# Altium schematic symbol library Battery_Management.SchLib: 135 symbols (part 1 of 2)
Pins are listed as number, name and electrical type; pins without a type are passive.

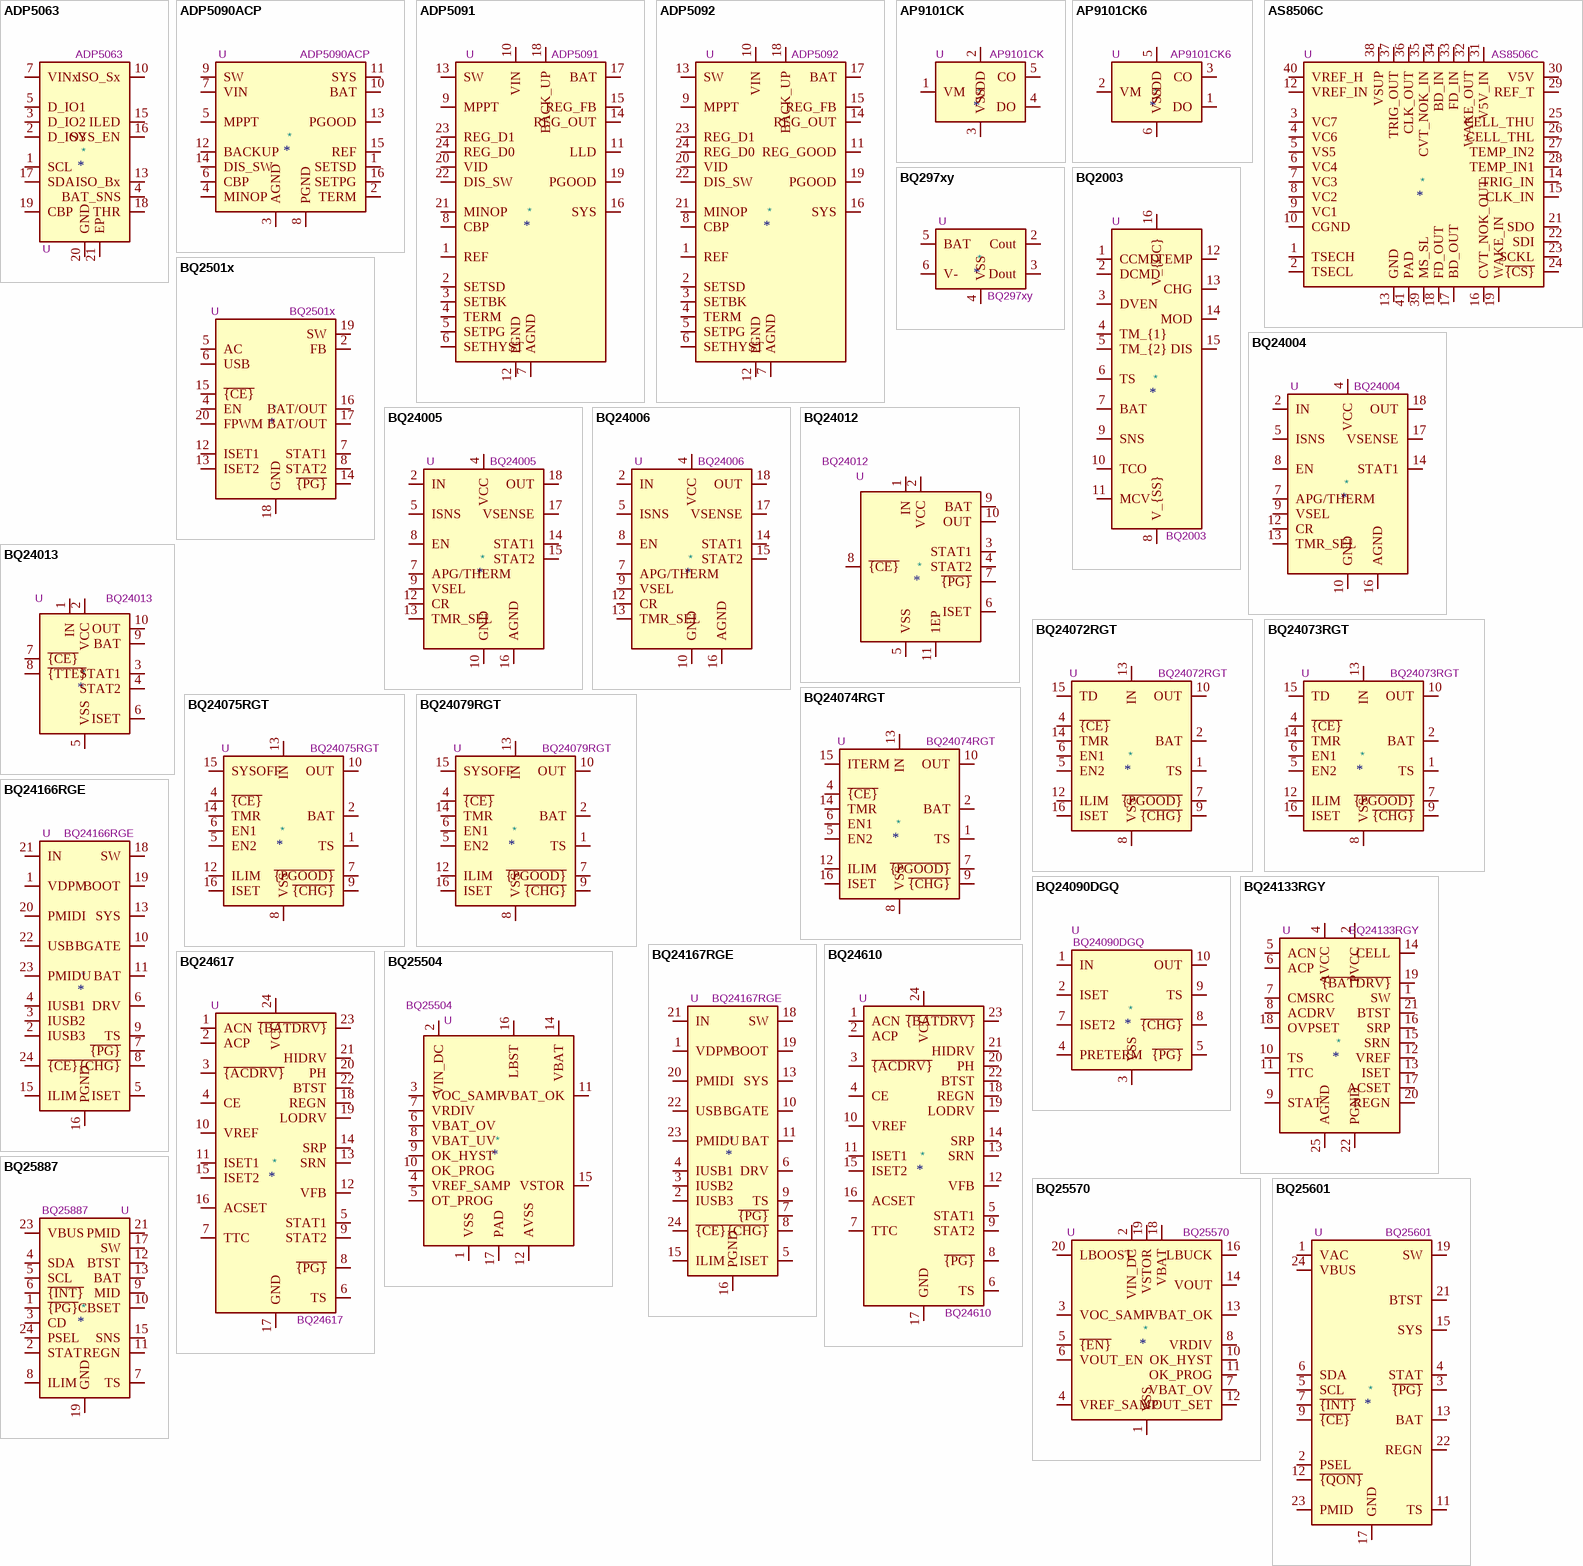
[diagram p0: symbols ADP5063 to BQ25887]

## ADP5063
designator *  value ADP5063  Reference: U
ki_keywords: LiFePo4 Battery USB PMIC; ki_description: Linear LiFePO4 Battery Charger with Power Path and USB Compatibility, LFCSP; ki_fp_filters: *QFN*1EP*4x4mm*P0.5mm*; Footprint: Package_DFN_QFN:QFN-20-1EP_4x4mm_P0.5mm_EP2.5x2.5mm; Datasheet: https://www.analog.com/media/en/technical-documentation/data-sheets/ADP5063.pdf
pins: 1 SCL, 2 D_IO3, 3 D_IO2, 4 BAT_SNS, 5 D_IO1, 6 VINx hidden, 7 VINx, 8 VINx hidden, 9 ISO_Sx hidden, 10 ISO_Sx, 11 ISO_Sx hidden, 12 ISO_Bx hidden, 13 ISO_Bx, 14 ISO_Bx hidden, 15 ILED, 16 SYS_EN, 17 SDA, 18 THR, 19 CBP, 20 GND, 21 EP

## ADP5090ACP
designator *  value ADP5090ACP  Reference: U
ki_keywords: boost regulator MPPT charge; ki_description: Ultralow Power Boost Regulator with MPPT and Charge Management, LFCSP-16; ki_fp_filters: LFCSP*1EP*3x3mm*P0.5mm*; Footprint: Package_CSP:LFCSP-16-1EP_3x3mm_P0.5mm_EP1.7x1.7mm; Datasheet: https://www.analog.com/media/en/technical-documentation/data-sheets/ADP5090.pdf
pins: 1 SETSD, 2 TERM, 3 AGND, 4 MINOP, 5 MPPT, 6 CBP, 7 VIN, 8 PGND, 9 SW, 10 BAT, 11 SYS, 12 BACKUP, 13 PGOOD, 14 DIS_SW, 15 REF, 16 SETPG, 17 AGND hidden

## ADP5091
designator *  value ADP5091  Reference: U
ki_keywords: energy harvester; ki_description: Ultralow Power Energy Harvester PMUs with MPPT and Charge Management, LFCSP-24; ki_fp_filters: LFCSP*1EP*4x4mm*P0.5mm*; Footprint: Package_CSP:LFCSP-24-1EP_4x4mm_P0.5mm_EP2.3x2.3mm; Datasheet: https://www.analog.com/media/en/technical-documentation/data-sheets/ADP5091-5092.pdf
pins: 1 REF, 2 SETSD, 3 SETBK, 4 TERM, 5 SETPG, 6 SETHYST, 7 AGND, 8 CBP, 9 MPPT, 10 VIN, 11 LLD, 12 PGND, 13 SW, 14 REG_OUT, 15 REG_FB, 16 SYS, 17 BAT, 18 BACK_UP, 19 PGOOD, 20 VID, 21 MINOP, 22 DIS_SW, 23 REG_D1, 24 REG_D0, 25 AGND hidden

## ADP5092
designator *  value ADP5092  Reference: U
ki_keywords: energy harvester; ki_description: Ultralow Power Energy Harvester PMUs with MPPT and Charge Management, LFCSP-24; ki_fp_filters: LFCSP*1EP*4x4mm*P0.5mm*; Footprint: Package_CSP:LFCSP-24-1EP_4x4mm_P0.5mm_EP2.3x2.3mm; Datasheet: https://www.analog.com/media/en/technical-documentation/data-sheets/ADP5091-5092.pdf
pins: 1 REF, 2 SETSD, 3 SETBK, 4 TERM, 5 SETPG, 6 SETHYST, 7 AGND, 8 CBP, 9 MPPT, 10 VIN, 11 REG_GOOD, 12 PGND, 13 SW, 14 REG_OUT, 15 REG_FB, 16 SYS, 17 BAT, 18 BACK_UP, 19 PGOOD, 20 VID, 21 MINOP, 22 DIS_SW, 23 REG_D1, 24 REG_D0, 25 AGND hidden

## AP9101CK
designator *  value AP9101CK  Reference: U
ki_keywords: battery protection li-ion li-po; ki_description: Li+ Battery Protection IC for Single Cell Pack, SOT-23-5; ki_fp_filters: SOT?23*; Footprint: Package_TO_SOT_SMD:SOT-23-5; Datasheet: https://www.diodes.com/assets/Datasheets/AP9101C.pdf
pins: 1 VM, 2 VDD, 3 VSS, 4 DO, 5 CO

## AP9101CK6
designator *  value AP9101CK6  Reference: U
ki_keywords: battery protection li-ion li-po; ki_description: Li+ Battery Protection IC for Single Cell Pack, SOT-23-6; ki_fp_filters: SOT?23*; Footprint: Package_TO_SOT_SMD:SOT-23-6; Datasheet: https://www.diodes.com/assets/Datasheets/AP9101C.pdf
pins: 1 DO, 2 VM, 3 CO, 4 NC hidden, 5 VDD, 6 VSS

## AS8506C
designator *  value AS8506C  Reference: U
ki_keywords: battery balance lithium charge afe; ki_description: Stackable cell monitor, cell balancer, 3-7 Cells, SPI Interface; ki_fp_filters: QFN*6x6mm*P0.5mm*; Footprint: Package_DFN_QFN:QFN-40-1EP_6x6mm_P0.5mm_EP4.6x4.6mm; Datasheet: http://ams.com/eng/content/download/476603/1402377/252935
pins: 1 TSECH, 2 TSECL, 3 VC7, 4 VC6, 5 VS5, 6 VC4, 7 VC3, 8 VC2, 9 VC1, 10 CGND, 11 NC hidden, 12 VREF_IN, 13 GND, 14 TRIG_IN, 15 CLK_IN, 16 CVT_NOK_OUT, 17 BD_OUT, 18 FD_OUT, 19 WAKE_IN, 20 NC_T hidden, 21 SDO, 22 SDI, 23 SCKL, 24 ~{{CS}}, 25 CELL_THU, 26 CELL_THL, 27 TEMP_IN2, 28 TEMP_IN1, 29 REF_T, 30 V5V, 31 V5V_IN, 32 WAKE_OUT, 33 FD_IN, 34 BD_IN, 35 CVT_NOK_IN, 36 CLK_OUT, 37 TRIG_OUT, 38 VSUP, 39 MS_SL, 40 VREF_H, 41 PAD

## BQ297xy
designator *  value BQ297xy  Reference: U
ki_keywords: protection Li-Ion Li-Pol; ki_description: Voltage and Current Protection for Single-Cell Li-Ion and Li-Polymer Batteries; ki_fp_filters: WSON*1.5x1.5mm*P0.5mm*; Footprint: Package_SON:WSON-6_1.5x1.5mm_P0.5mm; Datasheet: http://www.ti.com/lit/ds/symlink/bq2970.pdf
pins: 1 NC hidden, 2 Cout, 3 Dout, 4 VSS, 5 BAT, 6 V-

## BQ2003
designator *  value BQ2003  Reference: U
ki_keywords: battery nickel cadmium metal hydride; ki_description: Standalone switchmode NiCd/NiMH battery charger, 2-4 cells, negative dV and dT/dt termination; ki_fp_filters: DIP*W7.62mm* SOIC*7.5x10.3mm*P1.27mm*; Datasheet: http://www.ti.com/lit/ds/symlink/bq2003.pdf
pins: 1 CCMD, 2 DCMD, 3 DVEN, 4 TM_{1}, 5 TM_{2}, 6 TS, 7 BAT, 8 V_{SS}, 9 SNS, 10 TCO, 11 MCV, 12 TEMP, 13 CHG, 14 MOD, 15 DIS, 16 V_{CC}

## BQ2501x
designator *  value BQ2501x  Reference: U
ki_keywords: Li-ion buck; ki_description: 500mA Li-Ion Charger w/Integrated 150mA Synchronous Buck Converter, QFN-14; ki_fp_filters: Texas?VQFN?RHL*; Footprint: Package_DFN_QFN:Texas_VQFN-RHL-20_ThermalVias; Datasheet: http://www.ti.com/lit/ds/symlink/bq25010.pdf
pins: 1 NC hidden, 2 FB, 3 GND hidden, 4 EN, 5 AC, 6 USB, 7 STAT1, 8 STAT2, 9 GND hidden, 10 NC hidden, 11 NC hidden, 12 ISET1, 13 ISET2, 14 ~{{PG}}, 15 ~{{CE}}, 16 BAT/OUT, 17 BAT/OUT, 18 GND, 19 SW, 20 FPWM, 21 GND hidden

## BQ24004
designator *  value BQ24004  Reference: U
ki_keywords: 2-Cell Li-Ion Charge; ki_description: 2-Cell Li-Ion Charge Management IC, HTSSOP-20; ki_fp_filters: HTSSOP*1EP*4.4x6.5mm*P0.65mm*; Footprint: Package_SO:HTSSOP-20-1EP_4.4x6.5mm_P0.65mm_EP3.4x6.5mm_Mask2.4x3.7mm; Datasheet: http://www.ti.com/lit/ds/symlink/bq24006.pdf
pins: 1 N/C hidden, 2 IN, 3 IN hidden, 4 VCC, 5 ISNS, 6 N/C hidden, 7 APG/THERM, 8 EN, 9 VSEL, 10 GND, 11 N/C hidden, 12 CR, 13 TMR_SEL, 14 STAT1, 15 N/C hidden, 16 AGND, 17 VSENSE, 18 OUT, 19 OUT hidden, 20 N/C hidden, 21 GND hidden

## BQ24005
designator *  value BQ24005  Reference: U
ki_keywords: 2-Cell Li-Ion Charge; ki_description: 2-Cell Li-Ion Charge Management IC, HTSSOP-20; ki_fp_filters: HTSSOP*1EP*4.4x6.5mm*P0.65mm*; Footprint: Package_SO:HTSSOP-20-1EP_4.4x6.5mm_P0.65mm_EP3.4x6.5mm_Mask2.4x3.7mm; Datasheet: http://www.ti.com/lit/ds/symlink/bq24006.pdf
pins: 1 N/C hidden, 2 IN, 3 IN hidden, 4 VCC, 5 ISNS, 6 N/C hidden, 7 APG/THERM, 8 EN, 9 VSEL, 10 GND, 11 N/C hidden, 12 CR, 13 TMR_SEL, 14 STAT1, 15 STAT2, 16 AGND, 17 VSENSE, 18 OUT, 19 OUT hidden, 20 N/C hidden, 21 GND hidden

## BQ24006
designator *  value BQ24006  Reference: U
ki_keywords: 2-Cell Li-Ion Charge; ki_description: 2-Cell Li-Ion Charge Management IC, HTSSOP-20; ki_fp_filters: HTSSOP*1EP*4.4x6.5mm*P0.65mm*; Footprint: Package_SO:HTSSOP-20-1EP_4.4x6.5mm_P0.65mm_EP3.4x6.5mm_Mask2.4x3.7mm; Datasheet: http://www.ti.com/lit/ds/symlink/bq24006.pdf
pins: 1 N/C hidden, 2 IN, 3 IN hidden, 4 VCC, 5 ISNS, 6 N/C hidden, 7 APG/THERM, 8 EN, 9 VSEL, 10 GND, 11 N/C hidden, 12 CR, 13 TMR_SEL, 14 STAT1, 15 STAT2, 16 AGND, 17 VSENSE, 18 OUT, 19 OUT hidden, 20 N/C hidden, 21 GND hidden

## BQ24012
designator *  value BQ24012  Reference: U
ki_keywords: Battery Charger Li-Ion; ki_description: Single-Chip Li-Ion Charge Management IC, DFN-10; ki_fp_filters: VSON*1EP*3x3mm*P0.5mm*; Footprint: Package_SON:VSON-10-1EP_3x3mm_P0.5mm_EP1.65x2.4mm_ThermalVias; Datasheet: http://www.ti.com/lit/ds/symlink/bq24012.pdf
pins: 1 IN, 2 VCC, 3 STAT1, 4 STAT2, 5 VSS, 6 ISET, 7 ~{{PG}}, 8 ~{{CE}}, 9 BAT, 10 OUT, 11 1EP

## BQ24013
designator *  value BQ24013  Reference: U
ki_keywords: Batter Charger Li-Ion; ki_description: Single-Chip Li-Ion Charge Management IC, VSON-10; ki_fp_filters: Texas*DRC0010J*; Footprint: Package_SON:Texas_DRC0010J_ThermalVias; Datasheet: http://www.ti.com/lit/ds/symlink/bq24012.pdf
pins: 1 IN, 2 VCC, 3 STAT1, 4 STAT2, 5 VSS, 6 ISET, 7 ~{{CE}}, 8 ~{{TTE}}, 9 BAT, 10 OUT, 11 VSS hidden

## BQ24072RGT
designator *  value BQ24072RGT  Reference: U
ki_keywords: USB Charger; ki_description: USB-Friendly Li-Ion Battery Charger and Power-Path Management, VQFN-16; ki_fp_filters: VQFN*1EP*3x3mm*P0.5mm*; Footprint: Package_DFN_QFN:VQFN-16-1EP_3x3mm_P0.5mm_EP1.6x1.6mm; Datasheet: http://www.ti.com/lit/ds/symlink/bq24072.pdf
pins: 1 TS, 2 BAT, 3 BAT hidden, 4 ~{{CE}}, 5 EN2, 6 EN1, 7 ~{{PGOOD}}, 8 VSS, 9 ~{{CHG}}, 10 OUT, 11 OUT hidden, 12 ILIM, 13 IN, 14 TMR, 15 TD, 16 ISET, 17 VSS hidden

## BQ24073RGT
designator *  value BQ24073RGT  Reference: U
ki_keywords: USB Charger; ki_description: USB-Friendly Li-Ion Battery Charger and Power-Path Management, VQFN-16; ki_fp_filters: VQFN*1EP*3x3mm*P0.5mm*; Footprint: Package_DFN_QFN:VQFN-16-1EP_3x3mm_P0.5mm_EP1.6x1.6mm; Datasheet: http://www.ti.com/lit/ds/symlink/bq24073.pdf
pins: 1 TS, 2 BAT, 3 BAT hidden, 4 ~{{CE}}, 5 EN2, 6 EN1, 7 ~{{PGOOD}}, 8 VSS, 9 ~{{CHG}}, 10 OUT, 11 OUT hidden, 12 ILIM, 13 IN, 14 TMR, 15 TD, 16 ISET, 17 VSS hidden

## BQ24074RGT
designator *  value BQ24074RGT  Reference: U
ki_keywords: USB Charger; ki_description: USB-Friendly Li-Ion Battery Charger and Power-Path Management, VQFN-16; ki_fp_filters: VQFN*1EP*3x3mm*P0.5mm*; Footprint: Package_DFN_QFN:VQFN-16-1EP_3x3mm_P0.5mm_EP1.6x1.6mm; Datasheet: http://www.ti.com/lit/ds/symlink/bq24074.pdf
pins: 1 TS, 2 BAT, 3 BAT hidden, 4 ~{{CE}}, 5 EN2, 6 EN1, 7 ~{{PGOOD}}, 8 VSS, 9 ~{{CHG}}, 10 OUT, 11 OUT hidden, 12 ILIM, 13 IN, 14 TMR, 15 ITERM, 16 ISET, 17 VSS hidden

## BQ24075RGT
designator *  value BQ24075RGT  Reference: U
ki_keywords: USB Charger; ki_description: USB-Friendly Li-Ion Battery Charger and Power-Path Management, VQFN-16; ki_fp_filters: VQFN*1EP*3x3mm*P0.5mm*; Footprint: Package_DFN_QFN:VQFN-16-1EP_3x3mm_P0.5mm_EP1.6x1.6mm; Datasheet: http://www.ti.com/lit/ds/symlink/bq24075.pdf
pins: 1 TS, 2 BAT, 3 BAT hidden, 4 ~{{CE}}, 5 EN2, 6 EN1, 7 ~{{PGOOD}}, 8 VSS, 9 ~{{CHG}}, 10 OUT, 11 OUT hidden, 12 ILIM, 13 IN, 14 TMR, 15 SYSOFF, 16 ISET, 17 VSS hidden

## BQ24079RGT
designator *  value BQ24079RGT  Reference: U
ki_keywords: USB Charger; ki_description: USB-Friendly Li-Ion Battery Charger and Power-Path Management, VQFN-16; ki_fp_filters: VQFN*1EP*3x3mm*P0.5mm*; Footprint: Package_DFN_QFN:VQFN-16-1EP_3x3mm_P0.5mm_EP1.6x1.6mm; Datasheet: http://www.ti.com/lit/ds/symlink/bq24079.pdf
pins: 1 TS, 2 BAT, 3 BAT hidden, 4 ~{{CE}}, 5 EN2, 6 EN1, 7 ~{{PGOOD}}, 8 VSS, 9 ~{{CHG}}, 10 OUT, 11 OUT hidden, 12 ILIM, 13 IN, 14 TMR, 15 SYSOFF, 16 ISET, 17 VSS hidden

## BQ24090DGQ
designator *  value BQ24090DGQ  Reference: U
ki_keywords: battery charger singlecell li-ion li-poly; ki_description: 1A, Single-Input, SingleCell Li-Ion and Li-Pol BatteryCharger, HVSSOP-10; ki_fp_filters: HVSSOP*1EP*3x3mm*P0.5mm*; Footprint: Package_SO:HVSSOP-10-1EP_3x3mm_P0.5mm_EP1.57x1.88mm_ThermalVias; Datasheet: http://www.ti.com/lit/ds/symlink/bq24090.pdf
pins: 1 IN, 2 ISET, 3 VSS, 4 PRETERM, 5 ~{{PG}}, 6 NC hidden, 7 ISET2, 8 ~{{CHG}}, 9 TS, 10 OUT, 11 VSS hidden

## BQ24133RGY
designator *  value BQ24133RGY  Reference: U
ki_keywords: Battery Charger Li-Ion Li-Poly; ki_description: Synchronous switched mode Li-Ion and Li-Polymer battery charger, integrated MOSFETs and power path selector, Texas R-PVQFN-N24; ki_fp_filters: Texas*RGY*R*PVQFN*N*; Footprint: Package_DFN_QFN:Texas_RGY_R-PVQFN-N24_EP2.05x3.1mm; Datasheet: http://www.ti.com/lit/ds/symlink/bq24133.pdf
pins: 1 SW, 2 PVCC, 3 PVCC hidden, 4 AVCC, 5 ACN, 6 ACP, 7 CMSRC, 8 ACDRV, 9 STAT, 10 TS, 11 TTC, 12 VREF, 13 ISET, 14 CELL, 15 SRN, 16 SRP, 17 ACSET, 18 OVPSET, 19 ~{{BATDRV}}, 20 REGN, 21 BTST, 22 PGND, 23 PGND hidden, 24 SW hidden, 25 AGND

## BQ24166RGE
designator *  value BQ24166RGE  Reference: U
ki_keywords: Battery Charger Li-Ion Li-Poly; ki_description: High efficiency switched mode Li-Ion and Li-Polymer battery charger, integrated MOSFETs, power path selector and standard temperature sensing, Texas R-RGE0024H; ki_fp_filters: Texas*RGE0024H*; Footprint: Package_DFN_QFN:Texas_RGE0024H_EP2.7x2.7mm; Datasheet: https://www.ti.com/lit/ds/symlink/bq24166.pdf
pins: 1 VDPM, 2 IUSB3, 3 IUSB2, 4 IUSB1, 5 ISET, 6 DRV, 7 ~{{PG}}, 8 ~{{CHG}}, 9 TS, 10 BGATE, 11 BAT, 12 BAT hidden, 13 SYS, 14 SYS hidden, 15 ILIM, 16 PGND, 17 PGND hidden, 18 SW, 19 BOOT, 20 PMIDI, 21 IN, 22 USB, 23 PMIDU, 24 ~{{CE}}, 25 PGND hidden

## BQ24167RGE
designator *  value BQ24167RGE  Reference: U
ki_keywords: Battery Charger Li-Ion Li-Poly; ki_description: High efficiency switched mode Li-Ion and Li-Polymer battery charger, integrated MOSFETs, power path selector and JEITA compatible temperature sensing, Texas R-RGE0024H; ki_fp_filters: Texas*RGE0024H*; Footprint: Package_DFN_QFN:Texas_RGE0024H_EP2.7x2.7mm; Datasheet: https://www.ti.com/lit/ds/symlink/bq24166.pdf
pins: 1 VDPM, 2 IUSB3, 3 IUSB2, 4 IUSB1, 5 ISET, 6 DRV, 7 ~{{PG}}, 8 ~{{CHG}}, 9 TS, 10 BGATE, 11 BAT, 12 BAT hidden, 13 SYS, 14 SYS hidden, 15 ILIM, 16 PGND, 17 PGND hidden, 18 SW, 19 BOOT, 20 PMIDI, 21 IN, 22 USB, 23 PMIDU, 24 ~{{CE}}, 25 PGND hidden

## BQ24610
designator *  value BQ24610  Reference: U
ki_keywords: Li-ion buck; ki_description: 10A, 28V max voltage, Li-Ion Charger w/600kHz NMOS-NMOS Synchronous Buck Converter, VQFN-24; ki_fp_filters: VQFN*1EP*4x4mm*P0.5mm*; Footprint: Package_DFN_QFN:VQFN-24-1EP_4x4mm_P0.5mm_EP2.45x2.45mm; Datasheet: https://www.ti.com/lit/ds/symlink/bq24610.pdf
pins: 1 ACN, 2 ACP, 3 ~{{ACDRV}}, 4 CE, 5 STAT1, 6 TS, 7 TTC, 8 ~{{PG}}, 9 STAT2, 10 VREF, 11 ISET1, 12 VFB, 13 SRN, 14 SRP, 15 ISET2, 16 ACSET, 17 GND, 18 REGN, 19 LODRV, 20 PH, 21 HIDRV, 22 BTST, 23 ~{{BATDRV}}, 24 VCC, 25 GND hidden

## BQ24617
designator *  value BQ24617  Reference: U
ki_keywords: Li-ion buck; ki_description: 10A, 24V max voltage, Li-Ion Charger w/600kHz NMOS-NMOS Synchronous Buck Converter, VQFN-24; ki_fp_filters: VQFN*1EP*4x4mm*P0.5mm*; Footprint: Package_DFN_QFN:VQFN-24-1EP_4x4mm_P0.5mm_EP2.45x2.45mm; Datasheet: https://www.ti.com/lit/ds/symlink/bq24610.pdf
pins: 1 ACN, 2 ACP, 3 ~{{ACDRV}}, 4 CE, 5 STAT1, 6 TS, 7 TTC, 8 ~{{PG}}, 9 STAT2, 10 VREF, 11 ISET1, 12 VFB, 13 SRN, 14 SRP, 15 ISET2, 16 ACSET, 17 GND, 18 REGN, 19 LODRV, 20 PH, 21 HIDRV, 22 BTST, 23 ~{{BATDRV}}, 24 VCC, 25 GND hidden

## BQ25504
designator *  value BQ25504  Reference: U
ki_keywords: energy harvesting li-ion battery solar TEG; ki_description: Energy Harvesting Boost Converter with Battery Management, VQFN-16; ki_fp_filters: *QFN*3x3mm*P0.5mm*; Footprint: Package_DFN_QFN:VQFN-16-1EP_3x3mm_P0.5mm_EP1.68x1.68mm; Datasheet: http://www.ti.com/lit/ds/symlink/bq25504.pdf
pins: 1 VSS, 2 VIN_DC, 3 VOC_SAMP, 4 VREF_SAMP, 5 OT_PROG, 6 VBAT_OV, 7 VRDIV, 8 VBAT_UV, 9 OK_HYST, 10 OK_PROG, 11 VBAT_OK, 12 AVSS, 13 VSS hidden, 14 VBAT, 15 VSTOR, 16 LBST, 17 PAD

## BQ25570
designator *  value BQ25570  Reference: U
ki_keywords: harvester solar TEG charger li-on buck; ki_description: Nano Power Boost Charger and Buck Converter for Energy Harvester Powered Applications, QFN-20; ki_fp_filters: QFN*1EP*3.5x3.5mm*P0.5mm*; Footprint: Package_DFN_QFN:QFN-20-1EP_3.5x3.5mm_P0.5mm_EP2x2mm; Datasheet: http://www.ti.com/lit/ds/symlink/bq25570.pdf
pins: 1 VSS, 2 VIN_DC, 3 VOC_SAMP, 4 VREF_SAMP, 5 ~{{EN}}, 6 VOUT_EN, 7 VBAT_OV, 8 VRDIV, 9 VSS hidden, 10 OK_HYST, 11 OK_PROG, 12 VOUT_SET, 13 VBAT_OK, 14 VOUT, 15 VSS hidden, 16 LBUCK, 17 VSS hidden, 18 VBAT, 19 VSTOR, 20 LBOOST, 21 VSS hidden

## BQ25601
designator *  value BQ25601  Reference: U
ki_keywords: LiPO charger; ki_description: I2C Controlled 3A Single-Cell Battery Charger for High Input Voltage and Narrow Voltage DC Power Path Management, WQFN-32; ki_fp_filters: Texas*S?PWQFN?N*EP*; Footprint: Package_DFN_QFN:Texas_S-PWQFN-N24_EP2.7x2.7mm_ThermalVias; Datasheet: http://www.ti.com/lit/ds/symlink/bq25601.pdf
pins: 1 VAC, 2 PSEL, 3 ~{{PG}}, 4 STAT, 5 SCL, 6 SDA, 7 ~{{INT}}, 8 NC hidden, 9 ~{{CE}}, 10 NC hidden, 11 TS, 12 ~{{QON}}, 13 BAT, 14 BAT hidden, 15 SYS, 16 SYS hidden, 17 GND, 18 GND hidden, 19 SW, 20 SW hidden, 21 BTST, 22 REGN, 23 PMID, 24 VBUS, 25 GND hidden

## BQ25887
designator *  value BQ25887  Reference: U
ki_keywords: LiIon Charger Boost; ki_description: I2C Controller 2-Cell 2A Boost mode LiIon Charger with cell balancing; ki_fp_filters: VQFN*4x4mm*; Footprint: Package_DFN_QFN:VQFN-24-1EP_4x4mm_P0.5mm_EP2.5x2.5mm; Datasheet: https://www.ti.com/lit/ds/symlink/bq25887.pdf
pins: 1 ~{{PG}}, 2 STAT, 3 CD, 4 SDA, 5 SCL, 6 ~{{INT}}, 7 TS, 8 ILIM, 9 MID, 10 CBSET, 11 REGN, 12 BTST, 13 BAT, 14 BAT hidden, 15 SNS, 16 SNS hidden, 17 SW, 18 SW hidden, 19 GND, 20 GND hidden, 21 PMID, 22 PMID hidden, 23 VBUS, 24 PSEL

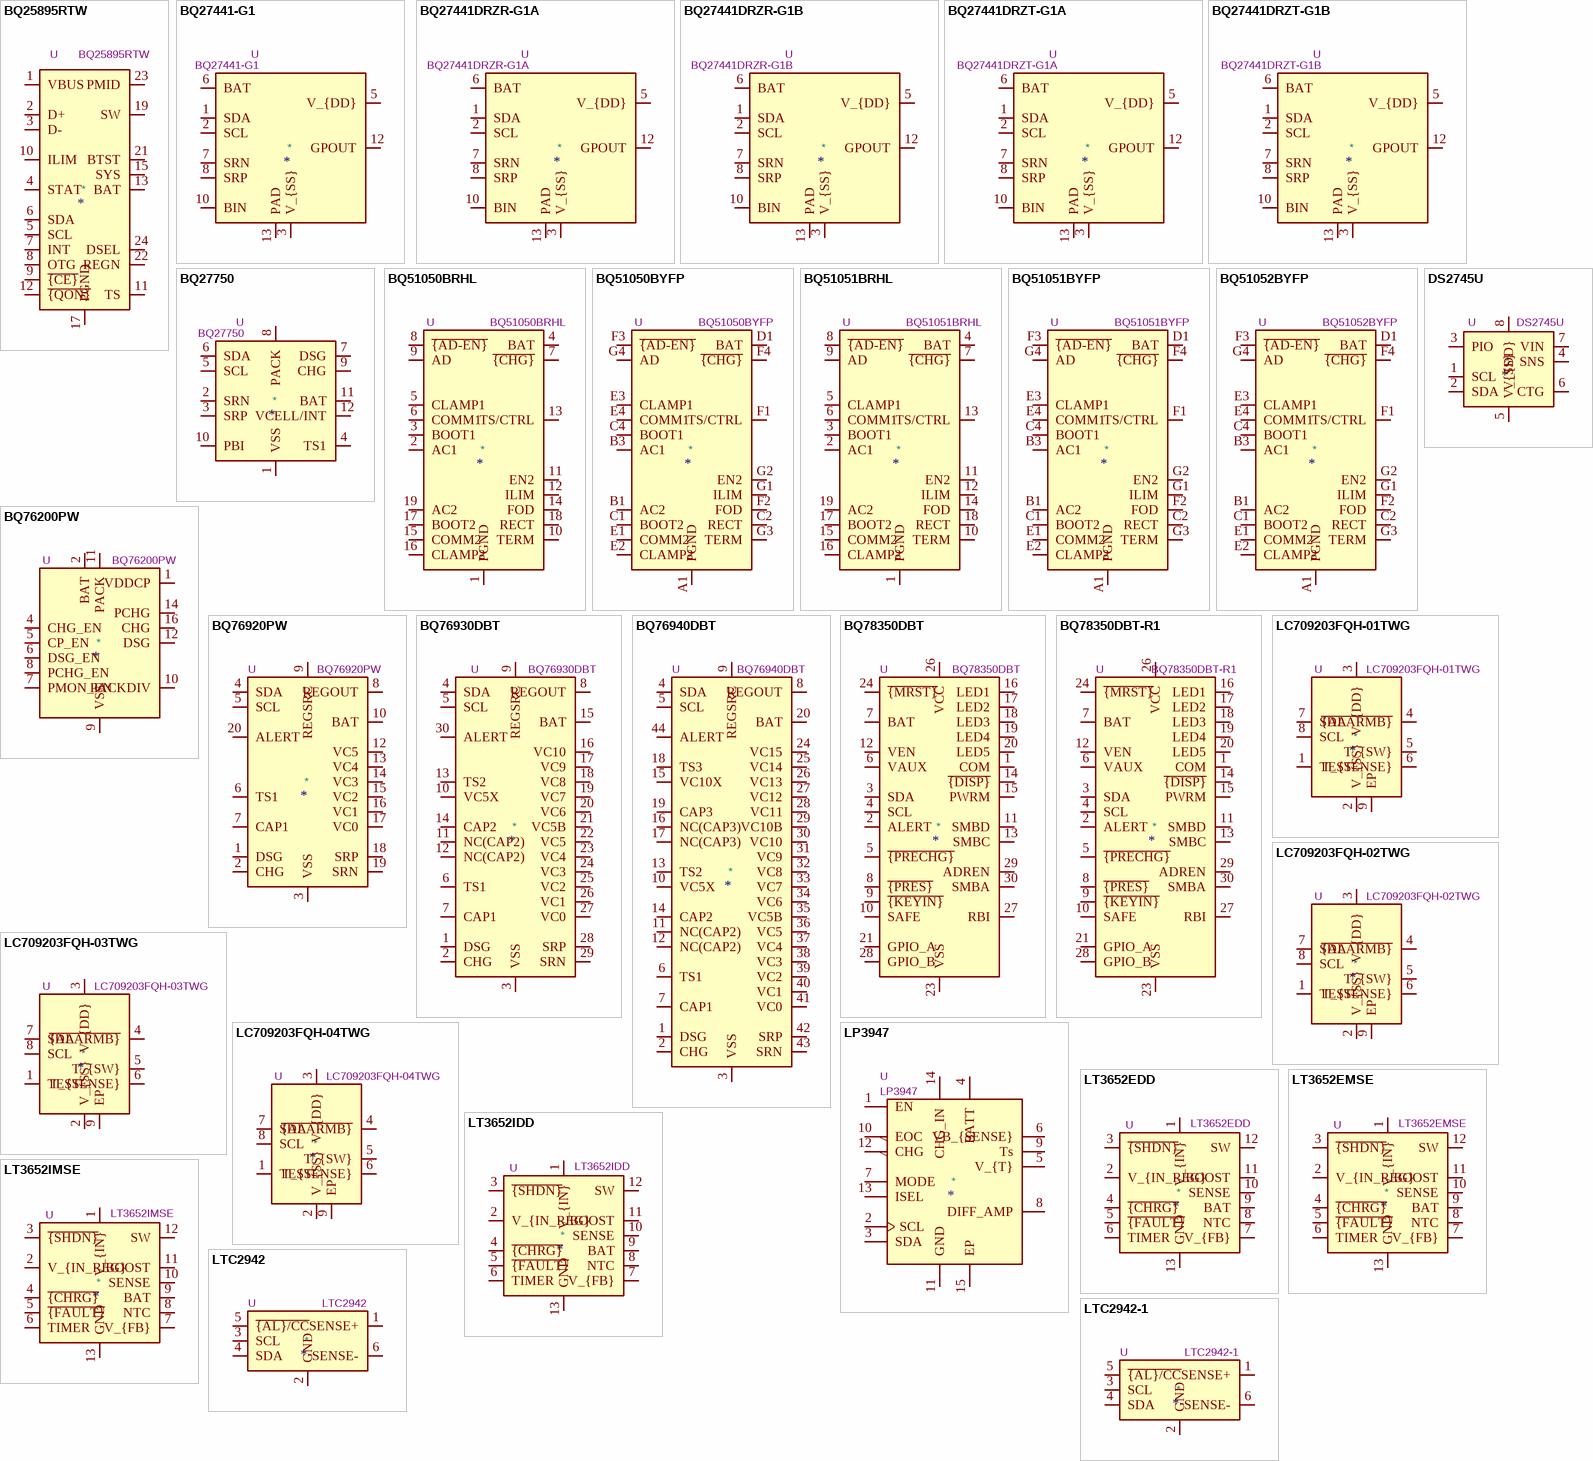
[diagram p1: symbols BQ25895RTW to LTC2942-1]

## BQ25895RTW
designator *  value BQ25895RTW  Reference: U
ki_keywords: Battery Charger and Power Path Management; ki_description: Controlled Single Cell 5A Fast Charger with MaxCharge, WQFN-24; ki_fp_filters: Texas*S?PWQFN?N*EP*; Footprint: Package_DFN_QFN:Texas_S-PWQFN-N24_EP2.7x2.7mm_ThermalVias; Datasheet: http://www.ti.com/lit/ds/symlink/bq25895.pdf
pins: 1 VBUS, 2 D+, 3 D-, 4 STAT, 5 SCL, 6 SDA, 7 INT, 8 OTG, 9 ~{{CE}}, 10 ILIM, 11 TS, 12 ~{{QON}}, 13 BAT, 14 BAT hidden, 15 SYS, 16 SYS hidden, 17 PGND, 18 PGND hidden, 19 SW, 20 SW hidden, 21 BTST, 22 REGN, 23 PMID, 24 DSEL, 25 PGND hidden

## BQ27441-G1
designator *  value BQ27441-G1  Reference: U
ki_keywords: Fuel Gauge; ki_description: System Side Li Ion/Polymer Fuel Gauge, PDSON-12; ki_fp_filters: *PDSO*N12*; Footprint: Package_SON:Texas_S-PDSO-N12; Datasheet: http://www.ti.com/lit/ds/symlink/bq27441-g1.pdf
pins: 1 SDA, 2 SCL, 3 V_{SS}, 4 NC hidden, 5 V_{DD}, 6 BAT, 7 SRN, 8 SRP, 9 NC hidden, 10 BIN, 11 NC hidden, 12 GPOUT, 13 PAD

## BQ27441DRZR-G1A
designator *  value BQ27441DRZR-G1A  Reference: U
ki_keywords: Fuel Gauge; ki_description: System Side Li Ion/Polymer Fuel Gauge, 4.2V, PDSON-12; ki_fp_filters: *PDSO*N12*; Footprint: Package_SON:Texas_S-PDSO-N12; Datasheet: http://www.ti.com/lit/ds/symlink/bq27441-g1.pdf
pins: 1 SDA, 2 SCL, 3 V_{SS}, 4 NC hidden, 5 V_{DD}, 6 BAT, 7 SRN, 8 SRP, 9 NC hidden, 10 BIN, 11 NC hidden, 12 GPOUT, 13 PAD

## BQ27441DRZR-G1B
designator *  value BQ27441DRZR-G1B  Reference: U
ki_keywords: Fuel Gauge; ki_description: System Side Li Ion/Polymer Fuel Gauge, 4.30-4.35V, PDSON-12; ki_fp_filters: *PDSO*N12*; Footprint: Package_SON:Texas_S-PDSO-N12; Datasheet: http://www.ti.com/lit/ds/symlink/bq27441-g1.pdf
pins: 1 SDA, 2 SCL, 3 V_{SS}, 4 NC hidden, 5 V_{DD}, 6 BAT, 7 SRN, 8 SRP, 9 NC hidden, 10 BIN, 11 NC hidden, 12 GPOUT, 13 PAD

## BQ27441DRZT-G1A
designator *  value BQ27441DRZT-G1A  Reference: U
ki_keywords: Fuel Gauge; ki_description: System Side Li Ion/Polymer Fuel Gauge, 4.2V, PDSON-12; ki_fp_filters: *PDSO*N12*; Footprint: Package_SON:Texas_S-PDSO-N12; Datasheet: http://www.ti.com/lit/ds/symlink/bq27441-g1.pdf
pins: 1 SDA, 2 SCL, 3 V_{SS}, 4 NC hidden, 5 V_{DD}, 6 BAT, 7 SRN, 8 SRP, 9 NC hidden, 10 BIN, 11 NC hidden, 12 GPOUT, 13 PAD

## BQ27441DRZT-G1B
designator *  value BQ27441DRZT-G1B  Reference: U
ki_keywords: Fuel Gauge; ki_description: System Side Li Ion/Polymer Fuel Gauge, 4.30-4.35V, PDSON-12; ki_fp_filters: *PDSO*N12*; Footprint: Package_SON:Texas_S-PDSO-N12; Datasheet: http://www.ti.com/lit/ds/symlink/bq27441-g1.pdf
pins: 1 SDA, 2 SCL, 3 V_{SS}, 4 NC hidden, 5 V_{DD}, 6 BAT, 7 SRN, 8 SRP, 9 NC hidden, 10 BIN, 11 NC hidden, 12 GPOUT, 13 PAD

## BQ27750
designator *  value BQ27750  Reference: U
ki_keywords: Fuel Gauge; ki_description: System Side Li Ion/Polymer Fuel Gauge, VSON-12; ki_fp_filters: Texas*PDSO*N12*; Footprint: Package_SON:Texas_S-PDSO-N12; Datasheet: http://www.ti.com/lit/ds/symlink/bq27750.pdf
pins: 1 VSS, 2 SRN, 3 SRP, 4 TS1, 5 SCL, 6 SDA, 7 DSG, 8 PACK, 9 CHG, 10 PBI, 11 BAT, 12 VCELL/INT, 13 VSS hidden

## BQ51050BRHL
designator *  value BQ51050BRHL  Reference: U
ki_keywords: Qi Wireless Power Receiver Battery Charger 4.2V; ki_description: Qi v1.2, Wireless Power Receiver and Battery Charger, Vout 4.2V, VQFN-20; ki_fp_filters: Texas?VQFN?RHL*; Footprint: Package_DFN_QFN:Texas_VQFN-RHL-20; Datasheet: http://www.ti.com/lit/ds/symlink/bq51050b.pdf
pins: 1 PGND, 2 AC1, 3 BOOT1, 4 BAT, 5 CLAMP1, 6 COMM1, 7 ~{{CHG}}, 8 ~{{AD-EN}}, 9 AD, 10 TERM, 11 EN2, 12 ILIM, 13 TS/CTRL, 14 FOD, 15 COMM2, 16 CLAMP2, 17 BOOT2, 18 RECT, 19 AC2, 20 PGND hidden, 21 PGND hidden

## BQ51050BYFP
designator *  value BQ51050BYFP  Reference: U
ki_keywords: Qi Wireless Power Receiver Battery Charger 4.2V; ki_description: Qi v1.2, Wireless Power Receiver and Battery Charger, Vout 4.2V, DSBGA-28; ki_fp_filters: Texas?DSBGA*1.9x3.0mm*P0.4mm*; Footprint: Package_BGA:Texas_DSBGA-28_1.9x3.0mm_Layout4x7_P0.4mm; Datasheet: http://www.ti.com/lit/ds/symlink/bq51050b.pdf
pins: A1 PGND, A2 PGND hidden, A3 PGND hidden, A4 PGND hidden, B1 AC2, B2 AC2 hidden, B3 AC1, B4 AC1 hidden, C1 BOOT2, C2 RECT, C3 RECT hidden, C4 BOOT1, D1 BAT, D2 BAT hidden, D3 BAT hidden, D4 BAT hidden, E1 COMM2, E2 CLAMP2, E3 CLAMP1, E4 COMM1, F1 TS/CTRL, F2 FOD, F3 ~{{AD-EN}}, F4 ~{{CHG}}, G1 ILIM, G2 EN2, G3 TERM, G4 AD

## BQ51051BRHL
designator *  value BQ51051BRHL  Reference: U
ki_keywords: Qi Wireless Power Receiver Battery Charger 4.35V; ki_description: Qi v1.2, Wireless Power Receiver and Battery Charger, Vout 4.35V, VQFN-20; ki_fp_filters: Texas?VQFN?RHL*; Footprint: Package_DFN_QFN:Texas_VQFN-RHL-20; Datasheet: http://www.ti.com/lit/ds/symlink/bq51051b.pdf
pins: 1 PGND, 2 AC1, 3 BOOT1, 4 BAT, 5 CLAMP1, 6 COMM1, 7 ~{{CHG}}, 8 ~{{AD-EN}}, 9 AD, 10 TERM, 11 EN2, 12 ILIM, 13 TS/CTRL, 14 FOD, 15 COMM2, 16 CLAMP2, 17 BOOT2, 18 RECT, 19 AC2, 20 PGND hidden, 21 PGND hidden

## BQ51051BYFP
designator *  value BQ51051BYFP  Reference: U
ki_keywords: Qi Wireless Power Receiver Battery Charger 4.35V; ki_description: Qi v1.2, Wireless Power Receiver and Battery Charger, Vout 4.35V, DSBGA-28; ki_fp_filters: Texas?DSBGA*1.9x3.0mm*P0.4mm*; Footprint: Package_BGA:Texas_DSBGA-28_1.9x3.0mm_Layout4x7_P0.4mm; Datasheet: http://www.ti.com/lit/ds/symlink/bq51051b.pdf
pins: A1 PGND, A2 PGND hidden, A3 PGND hidden, A4 PGND hidden, B1 AC2, B2 AC2 hidden, B3 AC1, B4 AC1 hidden, C1 BOOT2, C2 RECT, C3 RECT hidden, C4 BOOT1, D1 BAT, D2 BAT hidden, D3 BAT hidden, D4 BAT hidden, E1 COMM2, E2 CLAMP2, E3 CLAMP1, E4 COMM1, F1 TS/CTRL, F2 FOD, F3 ~{{AD-EN}}, F4 ~{{CHG}}, G1 ILIM, G2 EN2, G3 TERM, G4 AD

## BQ51052BYFP
designator *  value BQ51052BYFP  Reference: U
ki_keywords: Qi Wireless Power Receiver Battery Charger 4.40V; ki_description: Qi v1.2, Wireless Power Receiver and Battery Charger, Vout 4.40V, DSBGA-28; ki_fp_filters: Texas?DSBGA*1.9x3.0mm*P0.4mm*; Footprint: Package_BGA:Texas_DSBGA-28_1.9x3.0mm_Layout4x7_P0.4mm; Datasheet: http://www.ti.com/lit/ds/symlink/bq51052b.pdf
pins: A1 PGND, A2 PGND hidden, A3 PGND hidden, A4 PGND hidden, B1 AC2, B2 AC2 hidden, B3 AC1, B4 AC1 hidden, C1 BOOT2, C2 RECT, C3 RECT hidden, C4 BOOT1, D1 BAT, D2 BAT hidden, D3 BAT hidden, D4 BAT hidden, E1 COMM2, E2 CLAMP2, E3 CLAMP1, E4 COMM1, F1 TS/CTRL, F2 FOD, F3 ~{{AD-EN}}, F4 ~{{CHG}}, G1 ILIM, G2 EN2, G3 TERM, G4 AD

## BQ76200PW
designator *  value BQ76200PW  Reference: U
ki_keywords: Battery Pack Charge/Discharge High-Side; ki_description: High Voltage Battery Pack Front-End Charge/Discharge High-Side NFET Driver, TSSOP-16; ki_fp_filters: TSSOP*4.4x5mm*P0.65mm*; Footprint: Package_SO:TSSOP-16_4.4x5mm_P0.65mm; Datasheet: http://www.ti.com/lit/ds/symlink/bq76200.pdf
pins: 1 VDDCP, 2 BAT, 3 NC hidden, 4 CHG_EN, 5 CP_EN, 6 DSG_EN, 7 PMON_EN, 8 PCHG_EN, 9 VSS, 10 PACKDIV, 11 PACK, 12 DSG, 13 NC hidden, 14 PCHG, 15 NC hidden, 16 CHG

## BQ76920PW
designator *  value BQ76920PW  Reference: U
ki_keywords: lithium battery balance charge afe; ki_description: Lithium battery monitor, 3-5 cells, integrated balancing, I2C interface, TSSOP-20; ki_fp_filters: TSSOP*4.4x6.5mm*P0.65mm*; Footprint: Package_SO:TSSOP-20_4.4x6.5mm_P0.65mm; Datasheet: http://www.ti.com/lit/ds/symlink/bq76920.pdf
pins: 1 DSG, 2 CHG, 3 VSS, 4 SDA, 5 SCL, 6 TS1, 7 CAP1, 8 REGOUT, 9 REGSRC, 10 BAT, 11 NC hidden, 12 VC5, 13 VC4, 14 VC3, 15 VC2, 16 VC1, 17 VC0, 18 SRP, 19 SRN, 20 ALERT

## BQ76930DBT
designator *  value BQ76930DBT  Reference: U
ki_keywords: lithium battery balance charge afe; ki_description: Lithium battery monitor, 6-10 cells, integrated balancing, I2C interface, TSSOP-30; ki_fp_filters: TSSOP*4.4x7.8mm*P0.5mm*; Footprint: Package_SO:TSSOP-30_4.4x7.8mm_P0.5mm; Datasheet: http://www.ti.com/lit/ds/symlink/bq76930.pdf
pins: 1 DSG, 2 CHG, 3 VSS, 4 SDA, 5 SCL, 6 TS1, 7 CAP1, 8 REGOUT, 9 REGSRC, 10 VC5X, 11 NC(CAP2), 12 NC(CAP2), 13 TS2, 14 CAP2, 15 BAT, 16 VC10, 17 VC9, 18 VC8, 19 VC7, 20 VC6, 21 VC5B, 22 VC5, 23 VC4, 24 VC3, 25 VC2, 26 VC1, 27 VC0, 28 SRP, 29 SRN, 30 ALERT

## BQ76940DBT
designator *  value BQ76940DBT  Reference: U
ki_keywords: lithium battery balance charge afe; ki_description: Lithium battery monitor, 9-15 cells, integrated balancing, I2C interface, TSSOP-44; ki_fp_filters: TSSOP*4.4x11.2mm*P0.5mm*; Footprint: Package_SO:TSSOP-44_4.4x11.2mm_P0.5mm; Datasheet: http://www.ti.com/lit/ds/symlink/bq76940.pdf
pins: 1 DSG, 2 CHG, 3 VSS, 4 SDA, 5 SCL, 6 TS1, 7 CAP1, 8 REGOUT, 9 REGSRC, 10 VC5X, 11 NC(CAP2), 12 NC(CAP2), 13 TS2, 14 CAP2, 15 VC10X, 16 NC(CAP3), 17 NC(CAP3), 18 TS3, 19 CAP3, 20 BAT, 21 NC hidden, 22 NC hidden, 23 NC hidden, 24 VC15, 25 VC14, 26 VC13, 27 VC12, 28 VC11, 29 VC10B, 30 VC10, 31 VC9, 32 VC8, 33 VC7, 34 VC6, 35 VC5B, 36 VC5, 37 VC4, 38 VC3, 39 VC2, 40 VC1, 41 VC0, 42 SRP, 43 SRN, 44 ALERT

## BQ78350DBT
designator *  value BQ78350DBT  Reference: U
ki_keywords: battery management Li-Ion Gauge controller; ki_description: Lithium battery fuel gauge, battery management controller for BQ769x0, TSSOP-30; ki_fp_filters: TSSOP*4.4x7.8mm*P0.5mm*; Footprint: Package_SO:TSSOP-30_4.4x7.8mm_P0.5mm; Datasheet: http://www.ti.com/lit/ds/symlink/bq78350.pdf
pins: 1 COM, 2 ALERT, 3 SDA, 4 SCL, 5 ~{{PRECHG}}, 6 VAUX, 7 BAT, 8 ~{{PRES}}, 9 ~{{KEYIN}}, 10 SAFE, 11 SMBD, 12 VEN, 13 SMBC, 14 ~{{DISP}}, 15 PWRM, 16 LED1, 17 LED2, 18 LED3, 19 LED4, 20 LED5, 21 GPIO_A, 22 VSS hidden, 23 VSS, 24 ~{{MRST}}, 25 VSS hidden, 26 VCC, 27 RBI, 28 GPIO_B, 29 ADREN, 30 SMBA

## BQ78350DBT-R1
designator *  value BQ78350DBT-R1  Reference: U
ki_keywords: battery management Li-Ion gauge controller; ki_description: Lithium battery fuel gauge, battery management controller for BQ769x0, TSSOP-30; ki_fp_filters: TSSOP*4.4x7.8mm*P0.5mm*; Footprint: Package_SO:TSSOP-30_4.4x7.8mm_P0.5mm; Datasheet: http://www.ti.com/lit/ds/symlink/bq78350-r1.pdf
pins: 1 COM, 2 ALERT, 3 SDA, 4 SCL, 5 ~{{PRECHG}}, 6 VAUX, 7 BAT, 8 ~{{PRES}}, 9 ~{{KEYIN}}, 10 SAFE, 11 SMBD, 12 VEN, 13 SMBC, 14 ~{{DISP}}, 15 PWRM, 16 LED1, 17 LED2, 18 LED3, 19 LED4, 20 LED5, 21 GPIO_A, 22 VSS hidden, 23 VSS, 24 ~{{MRST}}, 25 VSS hidden, 26 VCC, 27 RBI, 28 GPIO_B, 29 ADREN, 30 SMBA

## DS2745U
designator *  value DS2745U  Reference: U
ki_keywords: battery capacity monitor I2C; ki_description: Current-flow, voltage and temperature measurement to support battery capacity monitoring, 2.5V to 4.5V VDD, -40 to +85 degree Celsius, TSSOP-8; ki_fp_filters: TSSOP*3x3mm*P0.65mm*; Footprint: Package_SO:TSSOP-8_3x3mm_P0.65mm; Datasheet: https://datasheets.maximintegrated.com/en/ds/DS2745.pdf
pins: 1 SCL, 2 SDA, 3 PIO, 4 SNS, 5 V_{SS}, 6 CTG, 7 VIN, 8 V_{DD}

## LC709203FQH-01TWG
designator *  value LC709203FQH-01TWG  Reference: U
ki_keywords: Battery gauge I2C; ki_description: Single LiPo battery fuel gauge, I2C, type 01, WDFN-8; ki_fp_filters: WDFN*1EP*4x3mm*P0.65mm*; Footprint: Package_DFN_QFN:WDFN-8-1EP_4x3mm_P0.65mm_EP2.4x1.8mm; Datasheet: https://www.onsemi.com/download/data-sheet/pdf/lc709203f-d.pdf
pins: 1 TEST, 2 V_{SS}, 3 V_{DD}, 4 ~{{ALARMB}}, 5 T_{SW}, 6 T_{SENSE}, 7 SDA, 8 SCL, 9 EP

## LC709203FQH-02TWG
designator *  value LC709203FQH-02TWG  Reference: U
ki_keywords: Battery gauge I2C; ki_description: Single LiPo battery fuel gauge, I2C, type 02, WDFN-8; ki_fp_filters: WDFN*1EP*4x3mm*P0.65mm*; Footprint: Package_DFN_QFN:WDFN-8-1EP_4x3mm_P0.65mm_EP2.4x1.8mm; Datasheet: https://www.onsemi.com/download/data-sheet/pdf/lc709203f-d.pdf
pins: 1 TEST, 2 V_{SS}, 3 V_{DD}, 4 ~{{ALARMB}}, 5 T_{SW}, 6 T_{SENSE}, 7 SDA, 8 SCL, 9 EP

## LC709203FQH-03TWG
designator *  value LC709203FQH-03TWG  Reference: U
ki_keywords: Battery gauge I2C; ki_description: Single LiPo battery fuel gauge, I2C, type 03, WDFN-8; ki_fp_filters: WDFN*1EP*4x3mm*P0.65mm*; Footprint: Package_DFN_QFN:WDFN-8-1EP_4x3mm_P0.65mm_EP2.4x1.8mm; Datasheet: https://www.onsemi.com/download/data-sheet/pdf/lc709203f-d.pdf
pins: 1 TEST, 2 V_{SS}, 3 V_{DD}, 4 ~{{ALARMB}}, 5 T_{SW}, 6 T_{SENSE}, 7 SDA, 8 SCL, 9 EP

## LC709203FQH-04TWG
designator *  value LC709203FQH-04TWG  Reference: U
ki_keywords: Battery gauge I2C; ki_description: Single LiPo battery fuel gauge, I2C, type 04, WDFN-8; ki_fp_filters: WDFN*1EP*4x3mm*P0.65mm*; Footprint: Package_DFN_QFN:WDFN-8-1EP_4x3mm_P0.65mm_EP2.4x1.8mm; Datasheet: https://www.onsemi.com/download/data-sheet/pdf/lc709203f-d.pdf
pins: 1 TEST, 2 V_{SS}, 3 V_{DD}, 4 ~{{ALARMB}}, 5 T_{SW}, 6 T_{SENSE}, 7 SDA, 8 SCL, 9 EP

## LP3947
designator *  value LP3947  Reference: U
ki_keywords: li-ion battery charger usb; ki_description: Single Cell Li-Ion LDO Battery Charger IC, Up to 1A, Support USB charging scheme; ki_fp_filters: WSON*4.0x4.0mm*P0.5mm*; Footprint: Package_SON:WSON-14-1EP_4.0x4.0mm_P0.5mm_EP2.6x2.6mm; Datasheet: http://www.ti.com/lit/ds/symlink/lp3947.pdf
pins: 1 EN, 2 SCL, 3 SDA, 4 BATT, 5 V_{T}, 6 VB_{SENSE}, 7 MODE, 8 DIFF_AMP, 9 Ts, 10 EOC, 11 GND, 12 CHG, 13 ISEL, 14 CHG_IN, 15 EP

## LT3652EDD
designator *  value LT3652EDD  Reference: U
ki_keywords: battery charger solar; ki_description: Step-down battery charger for solar power, Lithium Phosphate (LiFePO4), Lead (Pb), Lithium+ (Li+) , 4.95V to 32V VDD, 2A, -40 to +125 degree Celsius, DFN-12; ki_fp_filters: DFN*1EP*3x3mm*P0.45mm*; Footprint: Package_DFN_QFN:DFN-12-1EP_3x3mm_P0.45mm_EP1.66x2.38mm; Datasheet: https://www.analog.com/media/en/technical-documentation/data-sheets/3652fe.pdf
pins: 1 V_{IN}, 2 V_{IN_REG}, 3 ~{{SHDN}}, 4 ~{{CHRG}}, 5 ~{{FAULT}}, 6 TIMER, 7 V_{FB}, 8 NTC, 9 BAT, 10 SENSE, 11 BOOST, 12 SW, 13 GND

## LT3652EMSE
designator *  value LT3652EMSE  Reference: U
ki_keywords: battery charger solar; ki_description: Step-down battery charger for solar power, Lithium Phosphate (LiFePO4), Lead (Pb), Lithium+ (Li+) , 4.95V to 32V VDD, 2A, -40 to +125 degree Celsius, MSOP-12; ki_fp_filters: MSOP*1EP*3x4mm*P0.65mm*; Footprint: Package_SO:MSOP-12-1EP_3x4mm_P0.65mm_EP1.65x2.85mm; Datasheet: https://www.analog.com/media/en/technical-documentation/data-sheets/3652fe.pdf
pins: 1 V_{IN}, 2 V_{IN_REG}, 3 ~{{SHDN}}, 4 ~{{CHRG}}, 5 ~{{FAULT}}, 6 TIMER, 7 V_{FB}, 8 NTC, 9 BAT, 10 SENSE, 11 BOOST, 12 SW, 13 GND

## LT3652IDD
designator *  value LT3652IDD  Reference: U
ki_keywords: battery charger solar; ki_description: Step-down battery charger for solar power, Lithium Phosphate (LiFePO4), Lead (Pb), Lithium+ (Li+) , 4.95V to 32V VDD, 2A, -40 to +125 degree Celsius, DFN-12; ki_fp_filters: DFN*1EP*3x3mm*P0.45mm*; Footprint: Package_DFN_QFN:DFN-12-1EP_3x3mm_P0.45mm_EP1.66x2.38mm; Datasheet: https://www.analog.com/media/en/technical-documentation/data-sheets/3652fe.pdf
pins: 1 V_{IN}, 2 V_{IN_REG}, 3 ~{{SHDN}}, 4 ~{{CHRG}}, 5 ~{{FAULT}}, 6 TIMER, 7 V_{FB}, 8 NTC, 9 BAT, 10 SENSE, 11 BOOST, 12 SW, 13 GND

## LT3652IMSE
designator *  value LT3652IMSE  Reference: U
ki_keywords: battery charger solar; ki_description: Step-down battery charger for solar power, Lithium Phosphate (LiFePO4), Lead (Pb), Lithium+ (Li+) , 4.95V to 32V VDD, 2A, -40 to +125 degree Celsius, MSOP-12; ki_fp_filters: MSOP*1EP*3x4mm*P0.65mm*; Footprint: Package_SO:MSOP-12-1EP_3x4mm_P0.65mm_EP1.65x2.85mm; Datasheet: https://www.analog.com/media/en/technical-documentation/data-sheets/3652fe.pdf
pins: 1 V_{IN}, 2 V_{IN_REG}, 3 ~{{SHDN}}, 4 ~{{CHRG}}, 5 ~{{FAULT}}, 6 TIMER, 7 V_{FB}, 8 NTC, 9 BAT, 10 SENSE, 11 BOOST, 12 SW, 13 GND

## LTC2942
designator *  value LTC2942  Reference: U
ki_keywords: Fuel gauge coulomb counter I2C; ki_description: Battery Gas Gauge with Temperature, Voltage Measurement, DFN-6; ki_fp_filters: DFN*1EP*3x2mm*P0.5mm*; Footprint: Package_DFN_QFN:DFN-6-1EP_3x2mm_P0.5mm_EP1.65x1.35mm; Datasheet: https://www.analog.com/media/en/technical-documentation/data-sheets/2942fa.pdf
pins: 1 SENSE+, 2 GND, 3 SCL, 4 SDA, 5 ~{{AL}/CC}, 6 SENSE-

## LTC2942-1
designator *  value LTC2942-1  Reference: U
ki_keywords: Fuel gauge coulomb counter I2C; ki_description: 1A Battery Gas Gauge with Internal Sense Resistor and Temperature/Voltage Measurement, DFN-6; ki_fp_filters: DFN*1EP*3x2mm*P0.5mm*; Footprint: Package_DFN_QFN:DFN-6-1EP_3x2mm_P0.5mm_EP1.65x1.35mm; Datasheet: https://www.analog.com/media/en/technical-documentation/data-sheets/29421f.pdf
pins: 1 SENSE+, 2 GND, 3 SCL, 4 SDA, 5 ~{{AL}/CC}, 6 SENSE-

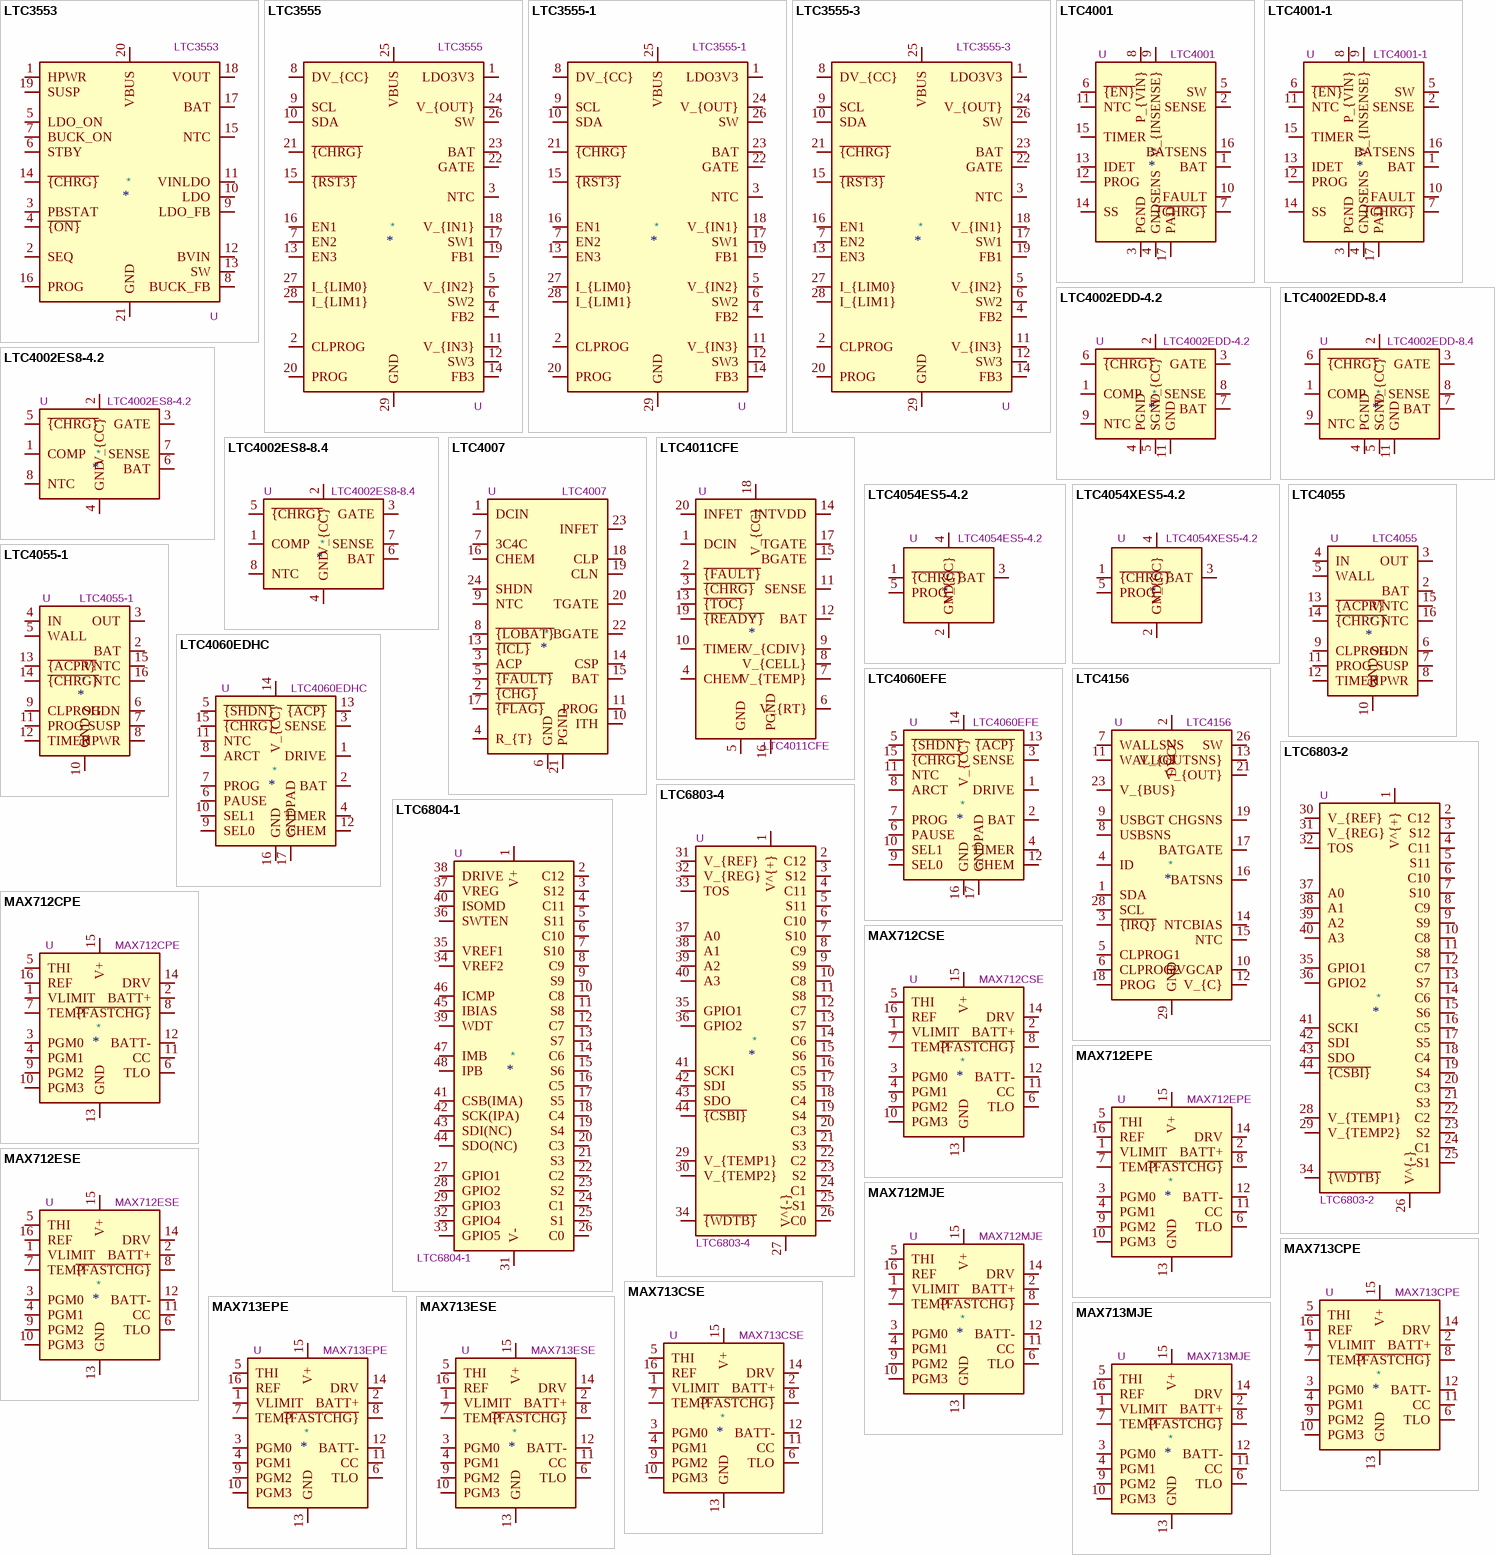
[diagram p2: symbols LTC3553 to MAX713MJE]

## LTC3553
designator *  value LTC3553  Reference: U
ki_keywords: USB PMIC; ki_description: Micropower USB Power Manager With Li-Ion Charger, LDO and Buck Regulator, 4.2V float, QFN-20; ki_fp_filters: *QFN*3x3mm*P0.4mm*; Footprint: Package_DFN_QFN:QFN-20-1EP_3x3mm_P0.4mm_EP1.65x1.65mm; Datasheet: https://www.analog.com/media/en/technical-documentation/data-sheets/3553fc.pdf
pins: 1 HPWR, 2 SEQ, 3 PBSTAT, 4 ~{{ON}}, 5 LDO_ON, 6 STBY, 7 BUCK_ON, 8 BUCK_FB, 9 LDO_FB, 10 LDO, 11 VINLDO, 12 BVIN, 13 SW, 14 ~{{CHRG}}, 15 NTC, 16 PROG, 17 BAT, 18 VOUT, 19 SUSP, 20 VBUS, 21 GND

## LTC3555
designator *  value LTC3555  Reference: U
ki_keywords: USB PMIC; ki_description: High Efficiency USB Power Manager + Triple Step-Down DC/DC, 4.2V float, QFN-28; ki_fp_filters: QFN*4x5mm*P0.5mm*; Footprint: Package_DFN_QFN:QFN-28-1EP_4x5mm_P0.5mm_EP2.65x3.65mm; Datasheet: https://www.analog.com/media/en/technical-documentation/data-sheets/3555fe.pdf
pins: 1 LDO3V3, 2 CLPROG, 3 NTC, 4 FB2, 5 V_{IN2}, 6 SW2, 7 EN2, 8 DV_{CC}, 9 SCL, 10 SDA, 11 V_{IN3}, 12 SW3, 13 EN3, 14 FB3, 15 ~{{RST3}}, 16 EN1, 17 SW1, 18 V_{IN1}, 19 FB1, 20 PROG, 21 ~{{CHRG}}, 22 GATE, 23 BAT, 24 V_{OUT}, 25 VBUS, 26 SW, 27 I_{LIM0}, 28 I_{LIM1}, 29 GND

## LTC3555-1
designator *  value LTC3555-1  Reference: U
ki_keywords: USB PMIC; ki_description: High Efficiency USB Power Manager + Triple Step-Down DC/DC, instant-on power, 4.2V float, QFN-28; ki_fp_filters: QFN*4x5mm*P0.5mm*; Footprint: Package_DFN_QFN:QFN-28-1EP_4x5mm_P0.5mm_EP2.65x3.65mm; Datasheet: https://www.analog.com/media/en/technical-documentation/data-sheets/3555fe.pdf
pins: 1 LDO3V3, 2 CLPROG, 3 NTC, 4 FB2, 5 V_{IN2}, 6 SW2, 7 EN2, 8 DV_{CC}, 9 SCL, 10 SDA, 11 V_{IN3}, 12 SW3, 13 EN3, 14 FB3, 15 ~{{RST3}}, 16 EN1, 17 SW1, 18 V_{IN1}, 19 FB1, 20 PROG, 21 ~{{CHRG}}, 22 GATE, 23 BAT, 24 V_{OUT}, 25 VBUS, 26 SW, 27 I_{LIM0}, 28 I_{LIM1}, 29 GND

## LTC3555-3
designator *  value LTC3555-3  Reference: U
ki_keywords: USB PMIC; ki_description: High Efficiency USB Power Manager + Triple Step-Down DC/DC, instant-on power, 4.1V float, QFN-28; ki_fp_filters: QFN*4x5mm*P0.5mm*; Footprint: Package_DFN_QFN:QFN-28-1EP_4x5mm_P0.5mm_EP2.65x3.65mm; Datasheet: https://www.analog.com/media/en/technical-documentation/data-sheets/3555fe.pdf
pins: 1 LDO3V3, 2 CLPROG, 3 NTC, 4 FB2, 5 V_{IN2}, 6 SW2, 7 EN2, 8 DV_{CC}, 9 SCL, 10 SDA, 11 V_{IN3}, 12 SW3, 13 EN3, 14 FB3, 15 ~{{RST3}}, 16 EN1, 17 SW1, 18 V_{IN1}, 19 FB1, 20 PROG, 21 ~{{CHRG}}, 22 GATE, 23 BAT, 24 V_{OUT}, 25 VBUS, 26 SW, 27 I_{LIM0}, 28 I_{LIM1}, 29 GND

## LTC4001
designator *  value LTC4001  Reference: U
ki_keywords: Li-Ion charger; ki_description: Single cell (4.2V) programmable synchronous buck Li-Ion charger, 2A, 5.5V input, QFN-16; ki_fp_filters: QFN*1EP*4x4mm*P0.65mm*; Footprint: Package_DFN_QFN:QFN-16-1EP_4x4mm_P0.65mm_EP2.15x2.15mm; Datasheet: https://www.analog.com/media/en/technical-documentation/data-sheets/4001f.pdf
pins: 1 BAT, 2 SENSE, 3 PGND, 4 GNDSENS, 5 SW, 6 ~{{EN}}, 7 ~{{CHRG}}, 8 P_{VIN}, 9 V_{INSENSE}, 10 FAULT, 11 NTC, 12 PROG, 13 IDET, 14 SS, 15 TIMER, 16 BATSENS, 17 PAD

## LTC4001-1
designator *  value LTC4001-1  Reference: U
ki_keywords: Li-Ion Charger; ki_description: Single cell (4.1V) programmable synchronous buck Li-Ion charger, 2A, 5.5V input, QFN-16; ki_fp_filters: QFN*1EP*4x4mm*P0.65mm*; Footprint: Package_DFN_QFN:QFN-16-1EP_4x4mm_P0.65mm_EP2.15x2.15mm; Datasheet: https://www.analog.com/media/en/technical-documentation/data-sheets/40011fa.pdf
pins: 1 BAT, 2 SENSE, 3 PGND, 4 GNDSENS, 5 SW, 6 ~{{EN}}, 7 ~{{CHRG}}, 8 P_{VIN}, 9 V_{INSENSE}, 10 FAULT, 11 NTC, 12 PROG, 13 IDET, 14 SS, 15 TIMER, 16 BATSENS, 17 PAD

## LTC4002EDD-4.2
designator *  value LTC4002EDD-4.2  Reference: U
ki_keywords: lithium li-ion battery charger; ki_description: Standalone Li-Ion Switch Mode Battery Charger, 4.7-22V input, single cell, DFN-10; ki_fp_filters: DFN*10*1EP*3x3mm*P0.5mm*; Footprint: Package_DFN_QFN:DFN-10-1EP_3x3mm_P0.5mm_EP1.55x2.48mm; Datasheet: https://www.analog.com/media/en/technical-documentation/data-sheets/4002f.pdf
pins: 1 COMP, 2 V_{CC}, 3 GATE, 4 PGND, 5 SGND, 6 ~{{CHRG}}, 7 BAT, 8 SENSE, 9 NTC, 10 NC hidden, 11 GND

## LTC4002EDD-8.4
designator *  value LTC4002EDD-8.4  Reference: U
ki_keywords: lithium li-ion battery charger; ki_description: Standalone Li-Ion Switch Mode Battery Charger, 8.9-22V input, double cell, DFN-10; ki_fp_filters: DFN*10*1EP*3x3mm*P0.5mm*; Footprint: Package_DFN_QFN:DFN-10-1EP_3x3mm_P0.5mm_EP1.55x2.48mm; Datasheet: https://www.analog.com/media/en/technical-documentation/data-sheets/4002f.pdf
pins: 1 COMP, 2 V_{CC}, 3 GATE, 4 PGND, 5 SGND, 6 ~{{CHRG}}, 7 BAT, 8 SENSE, 9 NTC, 10 NC hidden, 11 GND

## LTC4002ES8-4.2
designator *  value LTC4002ES8-4.2  Reference: U
ki_keywords: lithium li-ion battery charger; ki_description: Standalone Li-Ion Switch Mode Battery Charger, 4.7-22V input, single cell, SOIC-8; ki_fp_filters: SOIC*8*3.9x4.9mm*P1.27mm*; Footprint: Package_SO:SOIC-8_3.9x4.9mm_P1.27mm; Datasheet: https://www.analog.com/media/en/technical-documentation/data-sheets/4002f.pdf
pins: 1 COMP, 2 V_{CC}, 3 GATE, 4 GND, 5 ~{{CHRG}}, 6 BAT, 7 SENSE, 8 NTC

## LTC4002ES8-8.4
designator *  value LTC4002ES8-8.4  Reference: U
ki_keywords: lithium li-ion battery charger; ki_description: Standalone Li-Ion Switch Mode Battery Charger, 8.9-22V input, double cell, SOIC-8; ki_fp_filters: SOIC*8*3.9x4.9mm*P1.27mm*; Footprint: Package_SO:SOIC-8_3.9x4.9mm_P1.27mm; Datasheet: https://www.analog.com/media/en/technical-documentation/data-sheets/4002f.pdf
pins: 1 COMP, 2 V_{CC}, 3 GATE, 4 GND, 5 ~{{CHRG}}, 6 BAT, 7 SENSE, 8 NTC

## LTC4007
designator *  value LTC4007  Reference: U
ki_keywords: lithium ion polymer li-po battery; ki_description: 4A high efficiency standalone Li-ion battery charger, SSOP-24; ki_fp_filters: SSOP*3.9x8.7mm*P0.635mm*; Footprint: Package_SO:SSOP-24_3.9x8.7mm_P0.635mm; Datasheet: https://www.analog.com/media/en/technical-documentation/data-sheets/4007fc.pdf
pins: 1 DCIN, 2 ~{{CHG}}, 3 ACP, 4 R_{T}, 5 ~{{FAULT}}, 6 GND, 7 3C4C, 8 ~{{LOBAT}}, 9 NTC, 10 ITH, 11 PROG, 12 NC hidden, 13 ~{{ICL}}, 14 CSP, 15 BAT, 16 CHEM, 17 ~{{FLAG}}, 18 CLP, 19 CLN, 20 TGATE, 21 PGND, 22 BGATE, 23 INFET, 24 SHDN

## LTC4011CFE
designator *  value LTC4011CFE  Reference: U
ki_keywords: NiMH nickel battery charger; ki_description: High efficiency standalone NiMH battery charger, HTSSOP-20; ki_fp_filters: HTSSOP*1EP*4.4x6.5mm*P0.65mm*; Footprint: Package_SO:HTSSOP-20-1EP_4.4x6.5mm_P0.65mm_EP2.74x3.86mm; Datasheet: https://www.analog.com/media/en/technical-documentation/data-sheets/4011fb.pdf
pins: 1 DCIN, 2 ~{{FAULT}}, 3 ~{{CHRG}}, 4 CHEM, 5 GND, 6 V_{RT}, 7 V_{TEMP}, 8 V_{CELL}, 9 V_{CDIV}, 10 TIMER, 11 SENSE, 12 BAT, 13 ~{{TOC}}, 14 INTVDD, 15 BGATE, 16 PGND, 17 TGATE, 18 V_{CC}, 19 ~{{READY}}, 20 INFET, 21 GND hidden

## LTC4054ES5-4.2
designator *  value LTC4054ES5-4.2  Reference: U
ki_keywords: Constant-current constant-voltage linear charger single cell lithium-ion battery; ki_description: Constant-current/constant-voltage linear charger for single cell lithium-ion batteries with 2.9V Trickle Charge, 4.5V to 6.5V VDD, -40 to +85 degree Celsius, TSOT-23-5; ki_fp_filters: TSOT?23*; Footprint: Package_TO_SOT_SMD:TSOT-23-5; Datasheet: https://www.analog.com/media/en/technical-documentation/data-sheets/405442xf.pdf
pins: 1 ~{{CHRG}}, 2 GND, 3 BAT, 4 V_{CC}, 5 PROG

## LTC4054XES5-4.2
designator *  value LTC4054XES5-4.2  Reference: U
ki_keywords: Constant-current constant-voltage linear charger single cell lithium-ion battery; ki_description: Constant-current/constant-voltage linear charger for single cell lithium-ion batteries no Trickle Charge, 4.5V to 6.5V VDD, -40 to +85 degree Celsius, TSOT-23-5; ki_fp_filters: TSOT?23*; Footprint: Package_TO_SOT_SMD:TSOT-23-5; Datasheet: https://www.analog.com/media/en/technical-documentation/data-sheets/405442xf.pdf
pins: 1 ~{{CHRG}}, 2 GND, 3 BAT, 4 V_{CC}, 5 PROG

## LTC4055
designator *  value LTC4055  Reference: U
ki_keywords: charger PMIC Liion USB; ki_description: USB Power Controller and Li-Ion Charger (4.2V Float Voltage); ki_fp_filters: QFN*1EP*4x4mm*P0.65mm*; Footprint: Package_DFN_QFN:QFN-16-1EP_4x4mm_P0.65mm_EP2.15x2.15mm; Datasheet: https://www.analog.com/media/en/technical-documentation/data-sheets/4055fb.pdf
pins: 1 IN hidden, 2 BAT, 3 OUT, 4 IN, 5 WALL, 6 SHDN, 7 SUSP, 8 HPWR, 9 CLPROG, 10 GND, 11 PROG, 12 TIMER, 13 ~{{ACPR}}, 14 ~{{CHRG}}, 15 VNTC, 16 NTC, 17 GND hidden

## LTC4055-1
designator *  value LTC4055-1  Reference: U
ki_keywords: charger PMIC Liion USB; ki_description: USB Power Controller and Li-Ion Charger (4.1V Float Voltage); ki_fp_filters: QFN*1EP*4x4mm*P0.65mm*; Footprint: Package_DFN_QFN:QFN-16-1EP_4x4mm_P0.65mm_EP2.15x2.15mm; Datasheet: https://www.analog.com/media/en/technical-documentation/data-sheets/4055fb.pdf
pins: 1 IN hidden, 2 BAT, 3 OUT, 4 IN, 5 WALL, 6 SHDN, 7 SUSP, 8 HPWR, 9 CLPROG, 10 GND, 11 PROG, 12 TIMER, 13 ~{{ACPR}}, 14 ~{{CHRG}}, 15 VNTC, 16 NTC, 17 GND hidden

## LTC4060EDHC
designator *  value LTC4060EDHC  Reference: U
ki_keywords: battery charger; ki_description: Complete fast charging system for 2, 3 or 4 series NiMH or NiCd batteries, 0.4 to 2A, 4.5 to 10V VDD, -40 to +85 degree Celcisus, DFN-16; ki_fp_filters: DFN*1EP*3x5mm*P0.5mm*; Footprint: Package_DFN_QFN:DFN-16-1EP_3x5mm_P0.5mm_EP1.66x4.4mm; Datasheet: https://www.analog.com/media/en/technical-documentation/data-sheets/405442xf.pdf
pins: 1 DRIVE, 2 BAT, 3 SENSE, 4 TIMER, 5 ~{{SHDN}}, 6 PAUSE, 7 PROG, 8 ARCT, 9 SEL0, 10 SEL1, 11 NTC, 12 CHEM, 13 ~{{ACP}}, 14 V_{CC}, 15 ~{{CHRG}}, 16 GND, 17 GNDPAD

## LTC4060EFE
designator *  value LTC4060EFE  Reference: U
ki_keywords: battery charger; ki_description: Complete fast charging system for 2, 3 or 4 series NiMH or NiCd batteries, 0.4 to 2A, 4.5 to 10V VDD, -40 to +85 degree Celcisus, TSSOP-16; ki_fp_filters: TSSOP*EP*4.4x5mm*P0.65mm*; Footprint: Package_SO:TSSOP-16-1EP_4.4x5mm_P0.65mm; Datasheet: https://www.analog.com/media/en/technical-documentation/data-sheets/405442xf.pdf
pins: 1 DRIVE, 2 BAT, 3 SENSE, 4 TIMER, 5 ~{{SHDN}}, 6 PAUSE, 7 PROG, 8 ARCT, 9 SEL0, 10 SEL1, 11 NTC, 12 CHEM, 13 ~{{ACP}}, 14 V_{CC}, 15 ~{{CHRG}}, 16 GND, 17 GNDPAD

## LTC4156
designator *  value LTC4156  Reference: U
ki_keywords: lifepo charger PMIC USB; ki_description: Dual-Input Power Manager / 3.5A LiFePO4 Battery Charger with I2C Control and USB OTG, QFN-28; ki_fp_filters: QFN*1EP*4x5mm*P0.5mm*; Footprint: Package_DFN_QFN:QFN-28-1EP_4x5mm_P0.5mm_EP2.65x3.65mm; Datasheet: https://www.analog.com/media/en/technical-documentation/data-sheets/4156fa.pdf
pins: 1 SDA, 2 DVCC, 3 ~{{IRQ}}, 4 ID, 5 CLPROG1, 6 CLPROG2, 7 WALLSNS, 8 USBSNS, 9 USBGT, 10 OVGCAP, 11 WALLGT, 12 V_{C}, 13 V_{OUTSNS}, 14 NTCBIAS, 15 NTC, 16 BATSNS, 17 BATGATE, 18 PROG, 19 CHGSNS, 20 CHGSNS hidden, 21 V_{OUT}, 22 V_{OUT} hidden, 23 V_{BUS}, 24 V_{BUS} hidden, 25 V_{BUS} hidden, 26 SW, 27 SW hidden, 28 SCL, 29 GND

## LTC6803-2
designator *  value LTC6803-2  Reference: U
ki_keywords: battery balance afe; ki_description: Multicell Battery Stack Monitor, 12-cell max, multi-chemistry, integrated balancing, stackable, serial interface; ki_fp_filters: SSOP*5.3x12.8mm*P0.5mm*; Footprint: Package_SO:SSOP-44_5.3x12.8mm_P0.5mm; Datasheet: https://www.analog.com/media/en/technical-documentation/data-sheets/680324fa.pdf
pins: 1 V^{+}, 2 C12, 3 S12, 4 C11, 5 S11, 6 C10, 7 S10, 8 C9, 9 S9, 10 C8, 11 S8, 12 C7, 13 S7, 14 C6, 15 S6, 16 C5, 17 S5, 18 C4, 19 S4, 20 C3, 21 S3, 22 C2, 23 S2, 24 C1, 25 S1, 26 V^{-}, 27 NC hidden, 28 V_{TEMP1}, 29 V_{TEMP2}, 30 V_{REF}, 31 V_{REG}, 32 TOS, 33 NC hidden, 34 ~{{WDTB}}, 35 GPIO1, 36 GPIO2, 37 A0, 38 A1, 39 A2, 40 A3, 41 SCKI, 42 SDI, 43 SDO, 44 ~{{CSBI}}

## LTC6803-4
designator *  value LTC6803-4  Reference: U
ki_keywords: battery balance afe; ki_description: Multicell Battery Stack Monitor, 12-cell max, multi-chemistry, integrated balancing, stackable, serial interface; ki_fp_filters: SSOP*5.3x12.8mm*P0.5mm*; Footprint: Package_SO:SSOP-44_5.3x12.8mm_P0.5mm; Datasheet: https://www.analog.com/media/en/technical-documentation/data-sheets/680324fa.pdf
pins: 1 V^{+}, 2 C12, 3 S12, 4 C11, 5 S11, 6 C10, 7 S10, 8 C9, 9 S9, 10 C8, 11 S8, 12 C7, 13 S7, 14 C6, 15 S6, 16 C5, 17 S5, 18 C4, 19 S4, 20 C3, 21 S3, 22 C2, 23 S2, 24 C1, 25 S1, 26 C0, 27 V^{-}, 28 NC hidden, 29 V_{TEMP1}, 30 V_{TEMP2}, 31 V_{REF}, 32 V_{REG}, 33 TOS, 34 ~{{WDTB}}, 35 GPIO1, 36 GPIO2, 37 A0, 38 A1, 39 A2, 40 A3, 41 SCKI, 42 SDI, 43 SDO, 44 ~{{CSBI}}

## LTC6804-1
designator *  value LTC6804-1  Reference: U
ki_keywords: battery balance afe; ki_description: Multicell Battery Stack Monitor, 12-cell max, multi-chemistry, integrated balancing, stackable, serial interface, SSOP-48; ki_fp_filters: SSOP*5.3x12.8mm*P0.5mm*; Footprint: Package_SO:SSOP-48_5.3x12.8mm_P0.5mm; Datasheet: https://www.analog.com/media/en/technical-documentation/data-sheets/680412fc.pdf
pins: 1 V+, 2 C12, 3 S12, 4 C11, 5 S11, 6 C10, 7 S10, 8 C9, 9 S9, 10 C8, 11 S8, 12 C7, 13 S7, 14 C6, 15 S6, 16 C5, 17 S5, 18 C4, 19 S4, 20 C3, 21 S3, 22 C2, 23 S2, 24 C1, 25 S1, 26 C0, 27 GPIO1, 28 GPIO2, 29 GPIO3, 30 V- hidden, 31 V-, 32 GPIO4, 33 GPIO5, 34 VREF2, 35 VREF1, 36 SWTEN, 37 VREG, 38 DRIVE, 39 WDT, 40 ISOMD, 41 CSB(IMA), 42 SCK(IPA), 43 SDI(NC), 44 SDO(NC), 45 IBIAS, 46 ICMP, 47 IMB, 48 IPB

## MAX712CPE
designator *  value MAX712CPE  Reference: U
ki_keywords: battery charger controller; ki_description: Fast-charge Nickel Metal Hydride (NiMH) from a DC source, 0 to +70 Degree Celsius, PDIP-16; ki_fp_filters: DIP*W7.62mm*; Footprint: Package_DIP:DIP-16_W7.62mm; Datasheet: https://datasheets.maximintegrated.com/en/ds/MAX712-MAX713.pdf
pins: 1 VLIMIT, 2 BATT+, 3 PGM0, 4 PGM1, 5 THI, 6 TLO, 7 TEMP, 8 ~{{FASTCHG}}, 9 PGM2, 10 PGM3, 11 CC, 12 BATT-, 13 GND, 14 DRV, 15 V+, 16 REF

## MAX712CSE
designator *  value MAX712CSE  Reference: U
ki_keywords: battery charger controller; ki_description: Fast-charge Nickel Metal Hydride (NiMH) from a DC source, 0 to +70 Degree Celsius, SOIC-16; ki_fp_filters: SOIC*3.9x9.9mm*P1.27mm*; Footprint: Package_SO:SOIC-16_3.9x9.9mm_P1.27mm; Datasheet: https://datasheets.maximintegrated.com/en/ds/MAX712-MAX713.pdf
pins: 1 VLIMIT, 2 BATT+, 3 PGM0, 4 PGM1, 5 THI, 6 TLO, 7 TEMP, 8 ~{{FASTCHG}}, 9 PGM2, 10 PGM3, 11 CC, 12 BATT-, 13 GND, 14 DRV, 15 V+, 16 REF

## MAX712EPE
designator *  value MAX712EPE  Reference: U
ki_keywords: battery charger controller; ki_description: Fast-charge Nickel Metal Hydride (NiMH) from a DC source, -40 to +85 Degree Celsius, PDIP-16; ki_fp_filters: DIP*W7.62mm*; Footprint: Package_DIP:DIP-16_W7.62mm; Datasheet: https://datasheets.maximintegrated.com/en/ds/MAX712-MAX713.pdf
pins: 1 VLIMIT, 2 BATT+, 3 PGM0, 4 PGM1, 5 THI, 6 TLO, 7 TEMP, 8 ~{{FASTCHG}}, 9 PGM2, 10 PGM3, 11 CC, 12 BATT-, 13 GND, 14 DRV, 15 V+, 16 REF

## MAX712ESE
designator *  value MAX712ESE  Reference: U
ki_keywords: battery charger controller; ki_description: Fast-charge Nickel Metal Hydride (NiMH) from a DC source, -40 to +85 Degree Celsius, SOIC-16; ki_fp_filters: SOIC*3.9x9.9mm*P1.27mm*; Footprint: Package_SO:SOIC-16_3.9x9.9mm_P1.27mm; Datasheet: https://datasheets.maximintegrated.com/en/ds/MAX712-MAX713.pdf
pins: 1 VLIMIT, 2 BATT+, 3 PGM0, 4 PGM1, 5 THI, 6 TLO, 7 TEMP, 8 ~{{FASTCHG}}, 9 PGM2, 10 PGM3, 11 CC, 12 BATT-, 13 GND, 14 DRV, 15 V+, 16 REF

## MAX712MJE
designator *  value MAX712MJE  Reference: U
ki_keywords: battery charger controller; ki_description: Fast-charge Nickel Metal Hydride (NiMH) from a DC source, ceramic, -55 to +125 Degree Celsius, PDIP-16; ki_fp_filters: DIP*W7.62mm*; Footprint: Package_DIP:DIP-16_W7.62mm; Datasheet: https://datasheets.maximintegrated.com/en/ds/MAX712-MAX713.pdf
pins: 1 VLIMIT, 2 BATT+, 3 PGM0, 4 PGM1, 5 THI, 6 TLO, 7 TEMP, 8 ~{{FASTCHG}}, 9 PGM2, 10 PGM3, 11 CC, 12 BATT-, 13 GND, 14 DRV, 15 V+, 16 REF

## MAX713CPE
designator *  value MAX713CPE  Reference: U
ki_keywords: battery charger controller; ki_description: Fast-charge Nickel Cadmium (NiCd) from a DC source, 0 to +70 Degree Celsius, PDIP-16; ki_fp_filters: DIP*W7.62mm*; Footprint: Package_DIP:DIP-16_W7.62mm; Datasheet: https://datasheets.maximintegrated.com/en/ds/MAX712-MAX713.pdf
pins: 1 VLIMIT, 2 BATT+, 3 PGM0, 4 PGM1, 5 THI, 6 TLO, 7 TEMP, 8 ~{{FASTCHG}}, 9 PGM2, 10 PGM3, 11 CC, 12 BATT-, 13 GND, 14 DRV, 15 V+, 16 REF

## MAX713CSE
designator *  value MAX713CSE  Reference: U
ki_keywords: battery charger controller; ki_description: Fast-charge Nickel Cadmium (NiCd) from a DC source, 0 to +70 Degree Celsius, SOIC-16; ki_fp_filters: SOIC*3.9x9.9mm*P1.27mm*; Footprint: Package_SO:SOIC-16_3.9x9.9mm_P1.27mm; Datasheet: https://datasheets.maximintegrated.com/en/ds/MAX712-MAX713.pdf
pins: 1 VLIMIT, 2 BATT+, 3 PGM0, 4 PGM1, 5 THI, 6 TLO, 7 TEMP, 8 ~{{FASTCHG}}, 9 PGM2, 10 PGM3, 11 CC, 12 BATT-, 13 GND, 14 DRV, 15 V+, 16 REF